# Altium schematic symbol library CPDQ3V3-HF.SchLib: 2 symbols
Pins are listed as number, name and electrical type; pins without a type are passive.

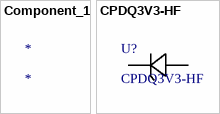
[diagram p0: symbols Component_1 to CPDQ3V3-HF]

## Component_1
designator *

## CPDQ3V3-HF
designator U?
No Description Available; Vendor: Comchip; Built_By: EMA_UL_Team; SourceLibrary: ComchipTechnology_2015-04-20; Manufacturer_Part_Number: CPDQ3V3-HF; Copyright: Copyright (C) 2021 Accelerated Designs. All rights reserved; RefDes: RefDes; Type: DEV
footprint CPDQ
pins: 1, 2